# EAGLE library part DS1307 (library Mylib)
DS1307 PDIP-8 package RTC(Real time Clock).
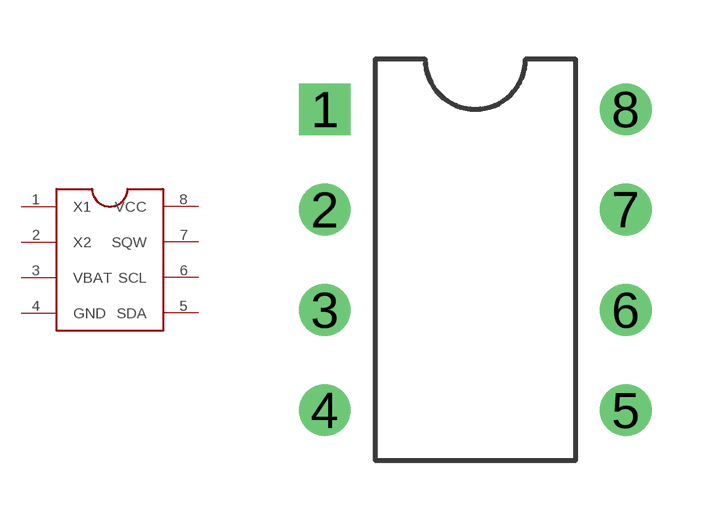
[diagram p2: symbol with the pads of DS1307_DIP_8; footprint DS1307_DIP_8]

Designator prefix -

## DS1307DS1307N  [DS1307_DIP_8]
1  X1
2  X2
3  VBAT
4  GND
5  SDA
6  SCL
7  SQW
8  VCC

## Footprint DS1307_DIP_8 (pad centres in mm)
drill 0.8 square: 1 -3.81,3.81
drill 0.8: 2 -3.81,1.27; 3 -3.81,-1.27; 4 -3.81,-3.81; 5 3.81,-3.81; 6 3.81,-1.27; 7 3.81,1.27; 8 3.81,3.81